# EAGLE library part 614105150721 (library 614105150721)
Check availability <https://pricing.snapeda.com/parts/614105150721/Wurth%20Electronics/view-part?ref=eda>
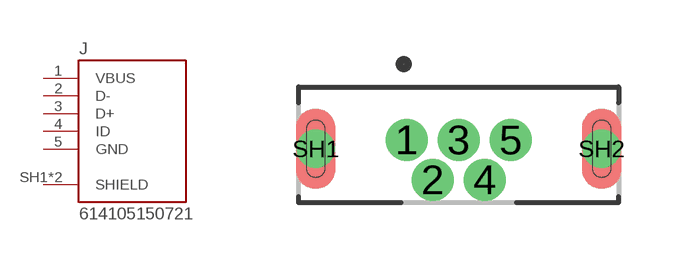
[diagram p0: symbol with the pads of WURTH_614105150721; footprint WURTH_614105150721]

Designator prefix J

## 614105150721 (Availability: In Stock; Check_prices: https://www.snapeda.com/parts/614105150721/Wurth+Electronics/view-part/?ref=eda; Description: Micro Type B Vertical THT- Tape & Reel not for Pick & Place machine - 1.0mm PCB; MF: Wurth Electronics; MP: 614105150721; Package: None; Price: None; SnapEDA_Link: https://www.snapeda.com/parts/614105150721/Wurth+Electronics/view-part/?ref=snap)  [WURTH_614105150721]
1  VBUS  pwr
2  D-
3  D+
4  ID  pas
5  GND  pwr
SH1  SHIELD  pas
SH2  SHIELD  pas

## Footprint WURTH_614105150721 (pad centres in mm)
drill 0.54 pad 0.94: 1 -1.3,0.22; 2 -0.65,-0.78; 3 0,0.22; 4 0.65,-0.78; 5 1.3,0.22
drill 0.45: SH1 -3.575,0; SH2 3.575,0